# EAGLE library part OPAMP-DUAL (library SparkFun-IC-Amplifiers)
Generic op-amp footprint This component is for the standard 358 pinning of a dual op-amp From the LM358 datasheet: Pin 1: Output A Pin 2: Inverting Input A Pin 3: Non-Inverting Input A Pin 4: Gnd Pin 5: Non-Inverting Input B Pin 6: Inverting Input B Pin 7: Output B Pin 8: V+
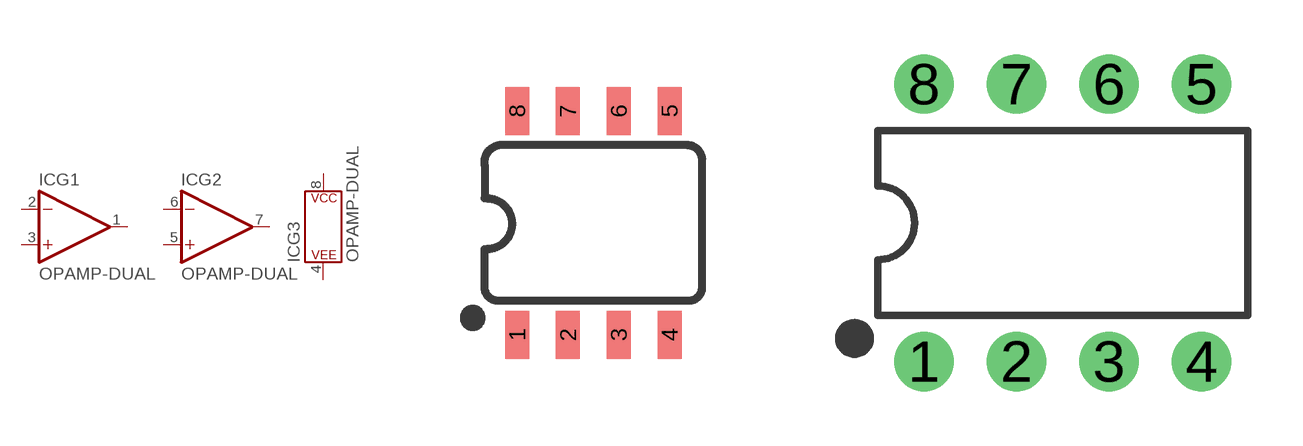
[diagram p5: symbol with the pads of SO08; footprints SO08, DIP08]

Designator prefix IC; gates G1=OP-AMP G2=OP-AMP G3=POWER_CONSORT

## OPAMP-DUALU (PROD_ID: NA-XXXXX; VALUE: OP-AMP)  [SO08]
1  G1:OUT  out
2  G1:-IN  in
3  G1:+IN  in
4  G3:P$V-
5  G2:+IN  in
6  G2:-IN  in
7  G2:OUT  out
8  G3:P$V+

## OPAMP-DUALDIP (PROD_ID: NA-XXXXX; VALUE: OP-AMP)  [DIP08]
Pads as for SO08

## Footprint SO08 (pad centres in mm)
SOIC, 0.15 inch width
smd 0.6 x 1.2: 1 -1.905,-2.8; 2 -0.635,-2.8; 3 0.635,-2.8; 4 1.905,-2.8; 5 1.905,2.8; 6 0.635,2.8; 7 -0.635,2.8; 8 -1.905,2.8

## Footprint DIP08 (pad centres in mm)
Dual In Line Package
drill 0.813 pad 1.626: 1 -3.81,-3.81; 2 -1.27,-3.81; 3 1.27,-3.81; 4 3.81,-3.81; 5 3.81,3.81; 6 1.27,3.81; 7 -1.27,3.81; 8 -3.81,3.81